# EAGLE library part AD74111 (library analog-devices)
Mono Audio Codec Low Cost, Low Power
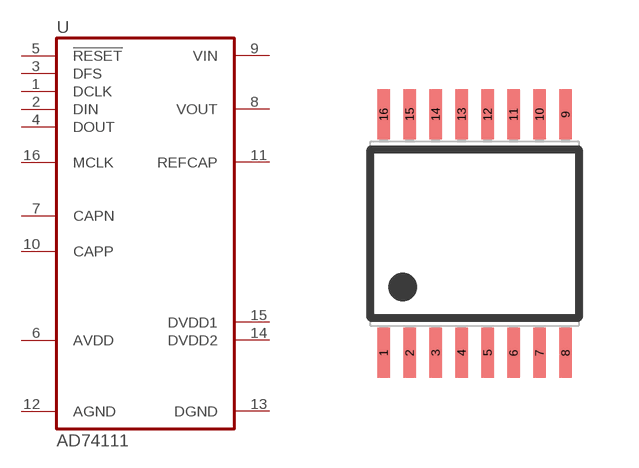
[diagram p91: symbol with the pads of TSSOP16; footprint TSSOP16]

Designator prefix U

## AD74111  [TSSOP16]
1  DCLK  in
2  DIN  in
3  DFS  in
4  DOUT  out
5  !RESET!  in
6  AVDD  pwr
7  CAPN  pwr
8  VOUT  out
9  VIN  in
10  CAPP  pwr
11  REFCAP  pwr
12  AGND  pwr
13  DGND  pwr
14  DVDD2  pwr
15  DVDD1  pwr
16  MCLK  in

## Footprint TSSOP16 (pad centres in mm)
Thin Shrink Small Outline Plastic 16
smd 0.31 x 1.25: 1 -2.275,-2.98; 2 -1.625,-2.98; 3 -0.975,-2.98; 4 -0.325,-2.98; 5 0.325,-2.98; 6 0.975,-2.98; 7 1.625,-2.98; 8 2.275,-2.98; 9 2.275,2.98; 10 1.625,2.98; 11 0.975,2.98; 12 0.325,2.98; 13 -0.325,2.98; 14 -0.975,2.98; 15 -1.625,2.98; 16 -2.275,2.98